# EAGLE library part DROTEKL6234 (library Drotek L6234)
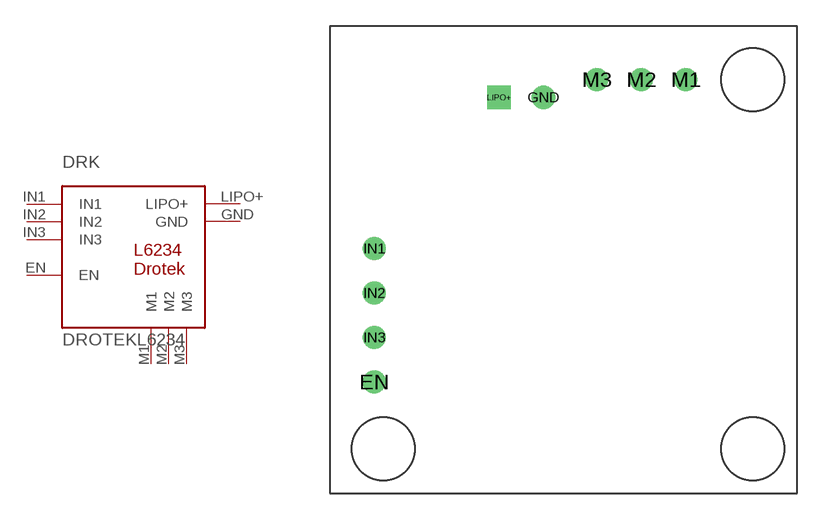
[diagram p0: symbol with the pads of DROTEKL6234; footprint DROTEKL6234]

Designator prefix DRK

## DROTEKL6234  [DROTEKL6234]
EN  EN
GND  GND  in
IN1  IN1  in
IN2  IN2  in
IN3  IN3  in
LIPO+  LIPO+  in
M1  M1  out
M2  M2  out
M3  M3  out

## Footprint DROTEKL6234 (pad centres in mm)
drill 0.813 pad 1.27: EN -11.43,-6.35; GND -1.778,9.906; IN1 -11.43,1.27; IN2 -11.43,-1.27; IN3 -11.43,-3.81; M1 6.35,10.922; M2 3.81,10.922; M3 1.27,10.922
drill 0.813 square: LIPO+ -4.318,9.906